# EAGLE library part SLIDE_DPDT (library switches)
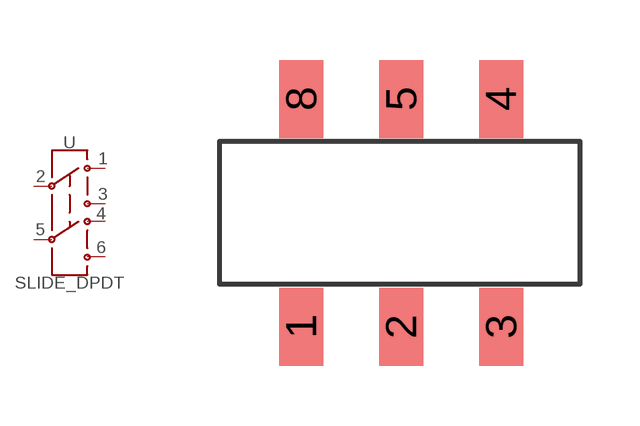
[diagram p0: symbol with the pads of SLIDE_SWITCH; footprint SLIDE_SWITCH]

Designator prefix -

## SLIDE_DPDT  [SLIDE_SWITCH]
1  1
2  2
3  3
4  6
5  5
8  4

## Footprint SLIDE_SWITCH (pad centres in mm)
smd 1.1 x 1.95: 1 -2.5,-2.85; 2 0,-2.85; 3 2.5,-2.85; 4 2.5,2.85; 5 0,2.85; 8 -2.5,2.85